# Altium footprint library THS4302.PcbLib: 1 footprints
Each footprint in its own frame and in the unit in brackets; x right, y up, seen from the top. Pads: shape width x height; smd on the part's side, far side on the other; paste and mask are expansions set on the pad; w line width, h text height; cw(c..) or ccw(c..) is an arc to the next point about the centre after c.
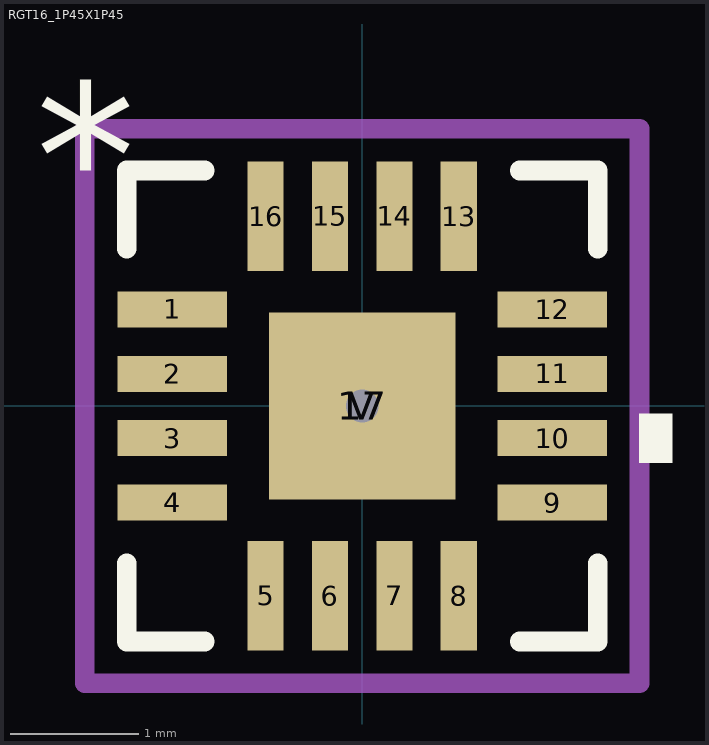
[diagram p0: the footprint, top view; thin cyan lines are the x and y axes]

## RGT16_1P45X1P45 [mm]
pads (18):
  rect 0.85x0.28 smd paste-0.412: 1(-1.475,0.75) 2(-1.475,0.25) 3(-1.475,-0.25) 4(-1.475,-0.75) 9(1.475,-0.75) 10(1.475,-0.25) 11(1.475,0.25) 12(1.475,0.75)
  rect 0.28x0.85 smd paste-0.412: 5(-0.75,-1.475) 6(-0.25,-1.475) 7(0.25,-1.475) 8(0.75,-1.475) 13(0.75,1.475) 14(0.25,1.475) 15(-0.25,1.475) 16(-0.75,1.475)
  rect 1.45x1.45 smd paste-0.712 mask-0.711: 17(0,0)
  round 0.508 / inner round 1.524 / far side round 0.508 hole 0.254: V(0,0)
Top Overlay:
  region: 2.154,-0.059 2.408,-0.059 2.408,-0.44 2.154,-0.44
  lines w0.152: -1.829,-1.223 -1.829,-1.829 -1.223,-1.829 ; -1.829,1.223 -1.829,1.829 -1.223,1.829 ; 1.223,-1.829 1.829,-1.829 1.829,-1.223 ; 1.223,1.829 1.829,1.829 1.829,1.223
  text "*" at -2.535,1.381 h1.27
Top Paste:
  region: 0.65,-0.1 0.241,-0.1 0.1,-0.241 0.1,-0.65 0.65,-0.65
  region: 0.65,0.65 0.1,0.65 0.1,0.241 0.241,0.1 0.65,0.1
  region: -0.241,-0.1 -0.65,-0.1 -0.65,-0.65 -0.1,-0.65 -0.1,-0.241
  region: -0.1,0.65 -0.65,0.65 -0.65,0.1 -0.241,0.1 -0.1,0.241
  region: -0.635,1.875 -0.865,1.875 -0.865,1.075 -0.635,1.075
  region: -0.135,1.875 -0.365,1.875 -0.365,1.075 -0.135,1.075
  region: 0.365,1.875 0.135,1.875 0.135,1.075 0.365,1.075
  region: 0.865,1.875 0.635,1.875 0.635,1.075 0.865,1.075
  region: 1.875,0.865 1.075,0.865 1.075,0.635 1.875,0.635
  region: 1.875,0.365 1.075,0.365 1.075,0.135 1.875,0.135
  region: 1.875,-0.135 1.075,-0.135 1.075,-0.365 1.875,-0.365
  region: 1.875,-0.635 1.075,-0.635 1.075,-0.865 1.875,-0.865
  region: 0.865,-1.075 0.635,-1.075 0.635,-1.875 0.865,-1.875
  region: 0.365,-1.075 0.135,-1.075 0.135,-1.875 0.365,-1.875
  region: -0.135,-1.075 -0.365,-1.075 -0.365,-1.875 -0.135,-1.875
  region: -0.635,-1.075 -0.865,-1.075 -0.865,-1.875 -0.635,-1.875
  region: -1.075,-0.635 -1.875,-0.635 -1.875,-0.865 -1.075,-0.865
  region: -1.075,-0.135 -1.875,-0.135 -1.875,-0.365 -1.075,-0.365
  region: -1.075,0.365 -1.875,0.365 -1.875,0.135 -1.075,0.135
  region: -1.075,0.865 -1.875,0.865 -1.875,0.635 -1.075,0.635
Top Solder:
  region: 0.2,-0.788 0.2,0.788 0.788,0.788 0.788,-0.788
  region: -0.788,-0.788 -0.788,0.788 -0.2,0.788 -0.2,-0.788
  region: -0.788,-0.788 -0.788,-0.2 0.788,-0.2 0.788,-0.788
  region: -0.788,0.2 -0.788,0.788 0.788,0.788 0.788,0.2
  region: -0.541,1.97 -0.96,1.97 -0.96,0.98 -0.541,0.98
  region: -0.04,1.97 -0.46,1.97 -0.46,0.98 -0.04,0.98
  region: 0.46,1.97 0.04,1.97 0.04,0.98 0.46,0.98
  region: 0.96,1.97 0.541,1.97 0.541,0.98 0.96,0.98
  region: 1.97,0.96 0.98,0.96 0.98,0.54 1.97,0.54
  region: 1.97,0.46 0.98,0.46 0.98,0.04 1.97,0.04
  region: 1.97,-0.04 0.98,-0.04 0.98,-0.46 1.97,-0.46
  region: 1.97,-0.54 0.98,-0.54 0.98,-0.96 1.97,-0.96
  region: 0.96,-0.98 0.541,-0.98 0.541,-1.97 0.96,-1.97
  region: 0.46,-0.98 0.04,-0.98 0.04,-1.97 0.46,-1.97
  region: -0.04,-0.98 -0.46,-0.98 -0.46,-1.97 -0.04,-1.97
  region: -0.541,-0.98 -0.96,-0.98 -0.96,-1.97 -0.541,-1.97
  region: -0.98,-0.54 -1.97,-0.54 -1.97,-0.96 -0.98,-0.96
  region: -0.98,-0.04 -1.97,-0.04 -1.97,-0.46 -0.98,-0.46
  region: -0.98,0.46 -1.97,0.46 -1.97,0.04 -0.98,0.04
  region: -0.98,0.96 -1.97,0.96 -1.97,0.54 -0.98,0.54
Mechanical 13:
  text "*" at -2.535,1.381 h1.27
Mechanical 15:
  lines w0.152: -2.154,-2.154 2.154,-2.154 2.154,2.154 -2.154,2.154 -2.154,-2.154
3D body "RGT16_1P45X1P45.stp": height 1, standoff 0, extent -1.626,-1.626 1.626,1.626